# EAGLE library part 3PDT (library PP_Electromechanical)
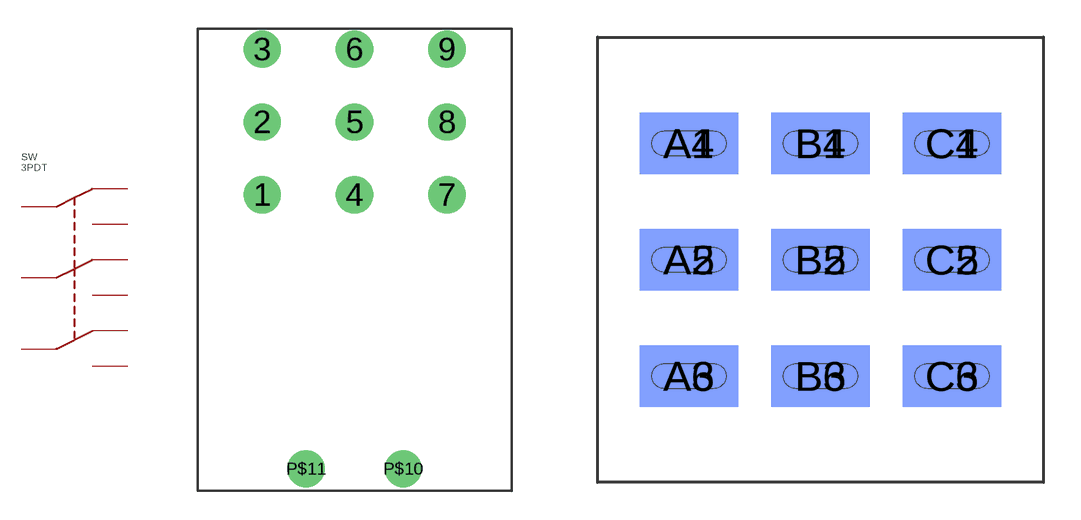
[diagram p2: symbol with the pads of 108-1A32T2716-EVX; footprints 108-1A32T2716-EVX, STOMPBOX_SW]

Designator prefix SW

## 3PDT_108-1A32T2716-EVX  [108-1A32T2716-EVX]
1  1
2  2
3  3
4  4
5  5
6  6
7  7
8  8
9  9

## 3PDT_STOMPBOX_SW  [STOMPBOX_SW]
A1  1
A2  2
A3  3
A4  1
A5  2
A6  3
B1  4
B2  5
B3  6
B4  4
B5  5
B6  6
C1  7
C2  8
C3  9
C4  7
C5  8
C6  9

## Footprint 108-1A32T2716-EVX (pad centres in mm)
drill 1.3: 1 -4.83,0; 2 -4.83,3.81; 3 -4.83,7.62; 4 0,0; 5 0,3.81; 6 0,7.62; 7 4.83,0; 8 4.83,3.81; 9 4.83,7.62; P$10 2.54,-14.35; P$11 -2.54,-14.35

## Footprint STOMPBOX_SW (pad centres in mm)
smd 3.988 x 2.489: A1 -5.309,4.699; A2 -5.309,0; A3 -5.309,-4.699; B1 0,4.699; B2 0,0; B3 0,-4.699; C1 5.309,4.699; C2 5.309,0; C3 5.309,-4.699
smd 3.988 x 2.489 bottom: A4 -5.309,4.699; A5 -5.309,0; A6 -5.309,-4.699; B4 0,4.699; B5 0,0; B6 0,-4.699; C4 5.309,4.699; C5 5.309,0; C6 5.309,-4.699